# EAGLE library part EXPANSIONPORT-KIM-EDGE (library commodore)
expansion port for the KIM-1, edge version
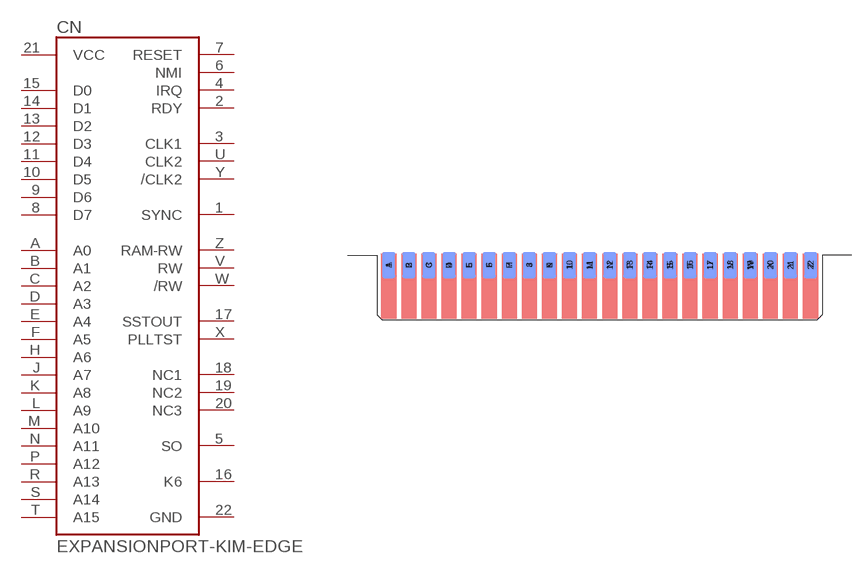
[diagram p37: symbol with the pads of UPS44EDGE; footprint UPS44EDGE]

Designator prefix CN

## EXPANSIONPORT-KIM-EDGE  [UPS44EDGE]
1  SYNC  in
2  RDY  pas
3  CLK1  in
4  IRQ  pas
5  SO  pas
6  NMI  pas
7  RESET  pas
8  D7
9  D6
10  D5
11  D4
12  D3
13  D2
14  D1
15  D0
16  K6  in
17  SSTOUT  in
18  NC1  pas
19  NC2  pas
20  NC3  pas
21  VCC  pwr
22  GND  pwr
A  A0  in
B  A1  in
C  A2  in
D  A3  in
E  A4  in
F  A5  in
H  A6  in
J  A7  in
K  A8  in
L  A9  in
M  A10  in
N  A11  in
P  A12  in
R  A13  in
S  A14  in
T  A15  in
U  CLK2  in
V  RW  in
W  /RW  in
X  PLLTST  pas
Y  /CLK2  in
Z  RAM-RW  in

## Footprint UPS44EDGE (pad centres in mm)
smd 2.54 x 5.08: 1 -41.579,3.68; 2 -37.619,3.68; 3 -33.659,3.68; 4 -29.699,3.68; 5 -25.739,3.68; 6 -21.779,3.68; 7 -17.819,3.68; 8 -13.859,3.68; 9 -9.899,3.68; 10 -5.939,3.68; 11 -1.979,3.68; 12 1.981,3.68; 13 5.941,3.68; 14 9.901,3.68; 15 13.861,3.68; 16 17.821,3.68; 17 21.781,3.68; 18 25.741,3.68; 19 29.701,3.68; 20 33.661,3.68; 21 37.621,3.68; 22 41.581,3.68
smd 2.54 x 5.08 bottom: A -41.579,3.68; B -37.619,3.68; C -33.659,3.68; D -29.699,3.68; E -25.739,3.68; F -21.779,3.68; H -17.819,3.68; J -13.859,3.68; K -9.899,3.68; L -5.939,3.68; M -1.979,3.68; N 1.981,3.68; P 5.941,3.68; R 9.901,3.68; S 13.861,3.68; T 17.821,3.68; U 21.781,3.68; V 25.741,3.68; W 29.701,3.68; X 33.661,3.68; Y 37.621,3.68; Z 41.581,3.68